# EAGLE library part TS5A3357 (library RoboJackets-ICs)
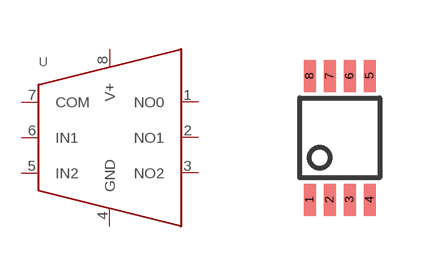
[diagram p11: symbol with the pads of US8; footprint US8]

Designator prefix U

## TS5A3357  [US8]
1  NO0
2  NO1
3  NO2
4  GND
5  IN2
6  IN1
7  COM
8  V+

## Footprint US8 (pad centres in mm)
smd 0.3 x 0.8: 1 -0.75,-1.55; 2 -0.25,-1.55; 3 0.25,-1.55; 4 0.75,-1.55; 5 0.75,1.55; 6 0.25,1.55; 7 -0.25,1.55; 8 -0.75,1.55